# Altium schematic symbol library Analog and Interface.SchLib: 29 symbols (part 1 of 2)
Pins are listed as number, name and electrical type; pins without a type are passive.

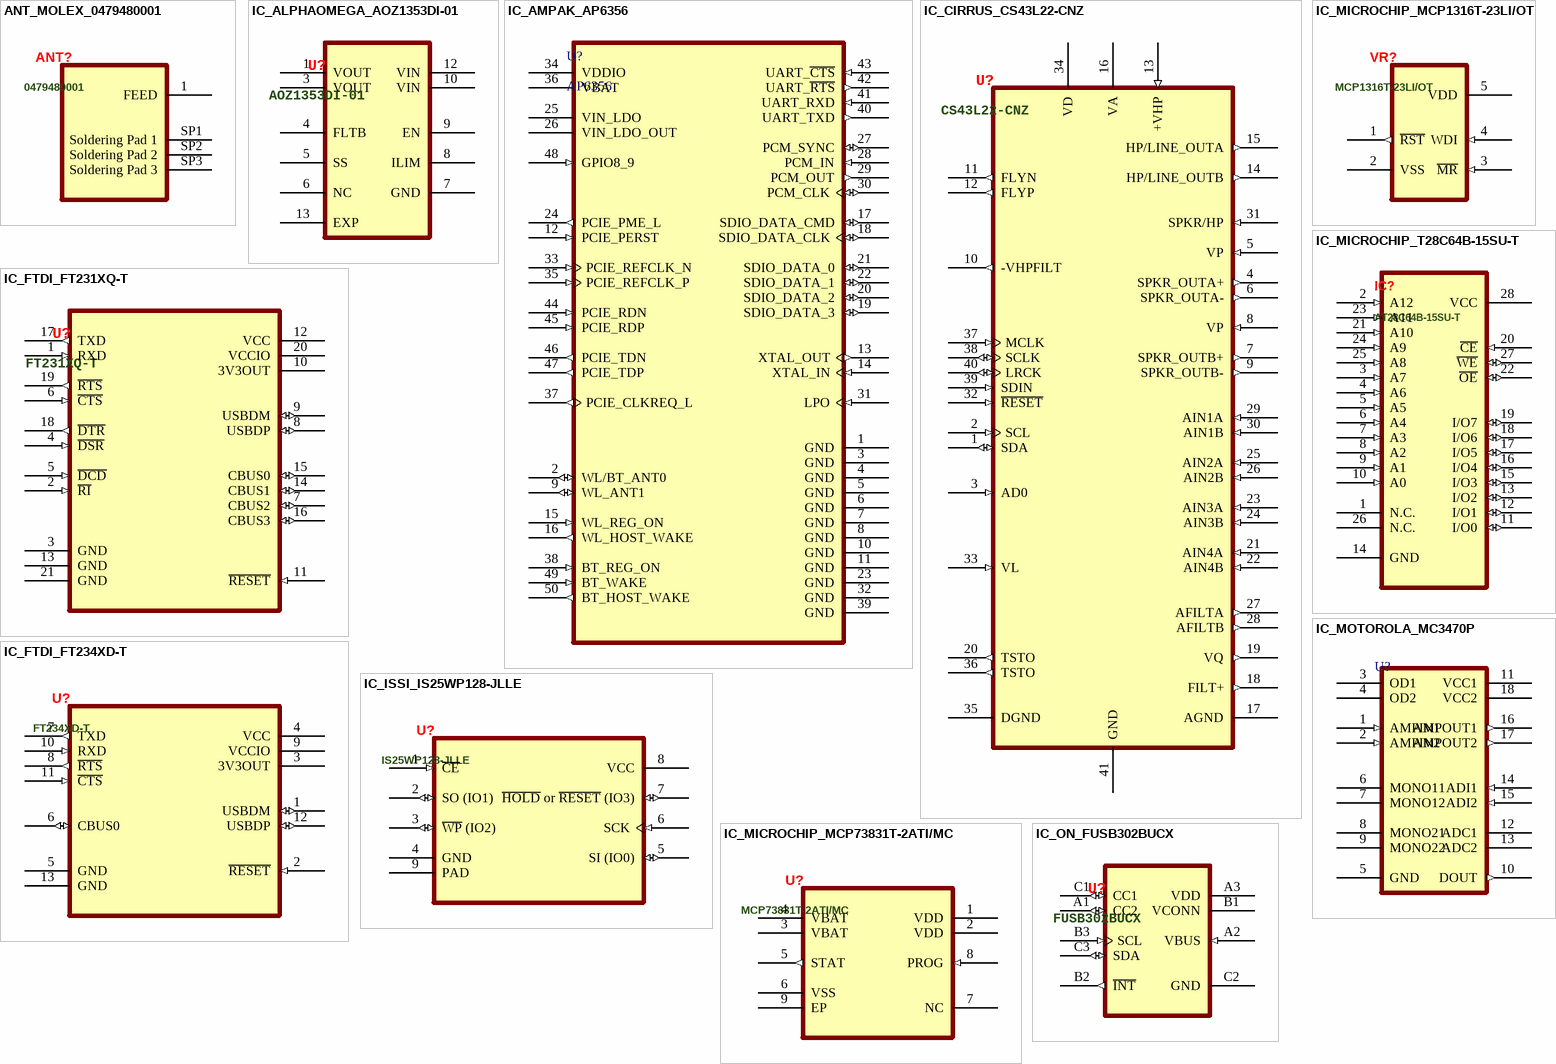
[diagram p0: symbols ANT_MOLEX_0479480001 to IC_ON_FUSB302BUCX]

## ANT_MOLEX_0479480001
designator ANT?, comment 0479480001
2.4GHz Bluetooth, WLAN, Zigbee™ Chip RF Antenna 2.4GHz ~ 2.483.5GHz 3dBi Solder Surface Mount; Manufacturer: Molex; RF Family / Standard: 802.15.4, Bluetooth, WiFi; Frequency Group: UHF (2GHz ~ 3GHz); Return Loss: -9dB; Gain: 3.0dBi; Power - Max: 2W; Impedance: 50 Ohms; ComponentLinkDescription: Product Specification; Manufacturer Part Number: 0479480001; Category: RF Antennas; Frequency (Center/Band): 2.4GHz; Frequency Range: 2.4GHz ~ 2.483.5GHz; Antenna Type: Chip; RoHS Compliant: Yes; Supplier 1: Digi-Key; Supplier Part Number 1: WM4893CT-ND; Supplier 2: Mouser; Supplier Part Number 2: 538-47948-0001; ComponentLinkURL: https://www.molex.com/pdm_docs/ps/PS-47948-001-001.pdf; ComponentLink1Description: Application Specification; ComponentLink1URL: https://www.molex.com/pdm_docs/as/AS-47948-001-001.pdf; ComponentLink2Description: Product Design Drawing; ComponentLink2URL: https://www.molex.com/pdm_docs/sd/479480001_sd.pdf; Case/Package: SMD/SMT
footprint ANT_MOLEX_0479480001 (Antenna Molex 0479480001)
pins: 1 FEED "Chip Enable", SP1 Soldering Pad 1, SP2 Soldering Pad 2, SP3 Soldering Pad 3

## IC_ALPHAOMEGA_AOZ1353DI-01
designator U?, comment AOZ1353DI-01
Power Switch/Driver 1:1 N-Channel 3.5A 12-DFN (3x3); Manufacturer: Alpha & Omega Semiconductor; Switch Type: USB Switch; ComponentLinkDescription: Datasheet; Interface: On/Off; Manufacturer Part Number: AOZ1353DI-01; Output Type: N-Channel; Case/Package: 12-DFN (3x3); Category: Power Distribution Switches, Load Drivers; ComponentLinkURL: http://www.aosmd.com/res/data_sheets/AOZ1353DI-01.pdf; Max Operating Temperature: 85°C; Min Operating Temperature: -40°C; RoHS Compliant: Yes; Supplier 1: Digi-Key; Supplier Part Number 1: 785-1913-1-ND
footprint IC_ALPHAOMEGA_AOZ1353DI-01 (Power Switch/Driver 1:1 N-Channel 3.5A 12-DFN (3x3))
pins: 1 VOUT (power) "Power Output", 3 VOUT (power) "Power Output", 4 FLTB (oc) "Fault Indicator", 5 SS "Soft-start pin.", 6 NC "Not connected", 7 GND (power) "Ground", 8 ILIM "Current Limit Set Pin", 9 EN "Enable Input", 10 VIN (power) "Supply Input", 12 VIN (power) "Supply Input", 13 EXP (power) "Exposed Pad"

## IC_AMPAK_AP6356
designator U?, comment AP6356
2.4GHz / 5GHz 802.11a/b/g/n/ac dual-band radio, Bluetooth; Manufacturer: AMPAK; ComponentLinkDescription: Datasheet; Max Supply Voltage: 5.5V; Min Supply Voltage: -0.5V; Operating Supply Voltage: 3.6V; Manufacturer Part Number: AP6356; Category: RF Transceiver ICs; ComponentLinkURL: https://rockchip.fr/ampak/AP6356_datasheet_V1.0_07252014.pdf; Max Operating Temperature: 65°C; Min Operating Temperature: -10°C; Case/Package: 50-QFN (15x13); ComponentLink1Description: Datasheet (Local); ComponentLink1URL: "C:\Users\Public\Documents\Altium\Projects\My-PCB-Library\Datasheets\AP6356_datasheet_V1.0_07252014.pdf"
footprint QFN90P1500X1300X160-50N (QFN, 50-Leads, Body 15.00x13.00mm, Pitch 0.90mm, IPC Medium Density)
footprint QFN90P1500X1300X160-50L (QFN, 50-Leads, Body 15.00x13.00mm, Pitch 0.90mm, IPC High Density)
footprint QFN90P1500X1300X160-50M (QFN, 50-Leads, Body 15.00x13.00mm, Pitch 0.90mm, IPC Low Density)
pins: 1 GND (power) "Ground", 2 WL/BT_ANT0 (io) "RF I/O Port0", 3 GND (power) "Ground", 4 GND (power) "Ground", 5 GND (power) "Ground", 6 GND (power) "Ground", 7 GND (power) "Ground", 8 GND (power) "Ground", 9 WL_ANT1 (io) "RF I/O Port1", 10 GND (power) "Ground", 11 GND (power) "Ground", 12 PCIE_PERST (in) "PCIE System Reset", 13 XTAL_OUT (out) "External Crystal Out", 14 XTAL_IN (in) "External Crystal  In / Single Clock Source In", 15 WL_REG_ON (in) "Low Asserting Reset for WiFi Core", 16 WL_HOST_WAKE (out) "WLAN to wake-up HOST", 17 SDIO_DATA_CMD (io) "SDIO Command Line", 18 SDIO_DATA_CLK (io) "SDIO Clock Line", 19 SDIO_DATA_3 (io) "SDIO Data Line 3", 20 SDIO_DATA_2 (io) "SDIO Data Line 2", 21 SDIO_DATA_0 (io) "SDIO Data Line 0", 22 SDIO_DATA_1 (io) "SDIO Data Line 1", 23 GND (power) "Ground", 24 PCIE_PME_L (out) "PCIE Power Mgt Event Output", 25 VIN_LDO (power) "Internal Buck Voltage Gen", 26 VIN_LDO_OUT (power) "Internal Buck Voltage Gen", 27 PCM_SYNC (io) "PCM Sync Signal", 28 PCM_IN (in) "PCM Data Input", 29 PCM_OUT (out) "PCM Data Output", 30 PCM_CLK (io) "PCM Clock", 31 LPO (in) "External Low Power Clock Input (32.768KHz)", 32 GND (power) "Ground", 33 PCIE_REFCLK_N (in) "PCIE Differential Clock inputs 100MHz diff", 34 VDDIO (power) "I/O Voltage Supply input", 35 PCIE_REFCLK_P (in) "PCIE Differential Clock inputs 100MHz diff", 36 VBAT (power) "Main Power Voltage Source Input", 37 PCIE_CLKREQ_L (out) "PCIE Clock Request Signal", 38 BT_REG_ON (in) "Low Asserting Reset for Bluetooth Core", 39 GND (power) "Ground", 40 UART_TXD (out) "Bluetooth UART Interface", 41 UART_RXD (in) "Bluetooth UART Interface", 42 UART_~{RTS} (out) "Bluetooth UART Interface", 43 UART_~{CTS} (in) "Bluetooth UART Interface", 44 PCIE_RDN (in) "PCIE Receiver Differential Pair", 45 PCIE_RDP (in) "PCIE Receiver Differential Pair", 46 PCIE_TDN (out) "PCIE Transmitter Differential Pair", 47 PCIE_TDP (out) "PCIE Transmitter Differential Pair", 48 GPIO8_9 (in) "Mode Selection: 1=PCIE Mode, 0=SDIO Mode", 49 BT_WAKE (in) "HOST Wake-Up Bluetooth Device", 50 BT_HOST_WAKE (out) "Bluetooth Device to Wake-Up Host"

## IC_CIRRUS_CS43L22-CNZ
designator U?, comment CS43L22-CNZ
DAC, Audio 24 b 96k I²S 40-QFN (6x6); Manufacturer: Cirrus Logic; Max Supply Voltage: 2.63V; Min Supply Voltage: 1.65V; Number of DAC Channels: 1; Interface: I2C,Serial; Sampling Rate: 96000S/s; Resolution: 24b; Polarity: Bipolar; Supply Type: Analog,Digital; Output Type: Voltage; Operating Supply Voltage: 2.5V; Number of Bits: 24; ComponentLinkDescription: Datasheet; Manufacturer Part Number: CS43L22-CNZ; Category: Digital to Analog Converters (DACs); Case/Package: 40-QFN (6x6); Min Operating Temperature: -40°C; Max Operating Temperature: 85°C; Output Polarity: Bipolar; Number of Channels: 1; RoHS Compliant: Yes; Supplier 1: Mouser; Supplier Part Number 1: 777-CS43L22-CNZ; ComponentLinkURL: https://d3uzseaevmutz1.cloudfront.net/pubs/proDatasheet/CS43L22_F2.pdf
footprint QFN50P600X600X100_HS-41N (QFN, 40-Leads, Body 6.00x6.00mm, Pitch 0.50mm, Thermal Pad 4.10x4.10mm, IPC Medium Density)
footprint QFN50P600X600X100_HS-41L (QFN, 40-Leads, Body 6.00x6.00mm, Pitch 0.50mm, Thermal Pad 4.10x4.10mm, IPC High Density)
footprint QFN50P600X600X100_HS-41M (QFN, 40-Leads, Body 6.00x6.00mm, Pitch 0.50mm, Thermal Pad 4.10x4.10mm, IPC Low Density)
pins: 1 SDA (io) "Serial  Control Data", 2 SCL (in) "Serial Control Port Clock", 3 AD0 (in) "Address Bit 0 (I²C)", 4 SPKR_OUTA+ (out) "PWM Speaker Output", 5 VP (in) "Power for PWM Drivers", 6 SPKR_OUTA- (out) "PWM Speaker Output", 7 SPKR_OUTB+ (out) "PWM Speaker Output", 8 VP (in) "Power for PWM Drivers", 9 SPKR_OUTB- (out) "PWM Speaker Output", 10 -VHPFILT (out) "Inverting Chage Pump Filter Connection", 11 FLYN (out) "Charge Pump Cap Negative Mode", 12 FLYP (out) "Charge Pump Cap Positive Node", 13 +VHP (in) "Positive Analog Power for Headphones", 14 HP/LINE_OUTB (out) "Headphone/Line Audio Output", 15 HP/LINE_OUTA (out) "Headphone/Line Audio Output", 16 VA (power) "Analog Power", 17 AGND (power) "Analog Ground", 18 FILT+ (out) "Positive Voltage Reference", 19 VQ (out) "Quiescent Voltage", 20 TSTO (out) "Test Out", 21 AIN4A (in) "Line-Level Analog Inputs", 22 AIN4B (in) "Line-Level Analog Inputs", 23 AIN3A (in) "Line-Level Analog Inputs", 24 AIN3B (in) "Line-Level Analog Inputs", 25 AIN2A (in) "Line-Level Analog Inputs", 26 AIN2B (in) "Line-Level Analog Inputs", 27 AFILTA (out) "Anti-Alias Filter Connection", 28 AFILTB (out) "Anti-Alias Filter Connection", 29 AIN1A (in) "Line-Level Analog Inputs", 30 AIN1B (in) "Line-Level Analog Inputs", 31 SPKR/HP (in) "Speaker/Headphone Switch", 32 ~{RESET} (in) "Reset", 33 VL (in) "Digital Interface Power", 34 VD (power) "Digital Power", 35 DGND (power) "Digital Ground", 36 TSTO (out) "Test Out", 37 MCLK (in) "Master Clock", 38 SCLK (io) "Serial Clock", 39 SDIN (in) "Serial Audio Data Input", 40 LRCK (io) "Left Right Clock", 41 GND (power) "Ground reference for PWM power FETs and charge pump"

## IC_FTDI_FT231XQ-T
designator U?, comment FT231XQ-T
USB Bridge, USB to UART USB 2.0 UART Interface 20-QFN (4x4); Manufacturer: FTDI; Operating Supply Voltage: 5V; Max Supply Voltage: 5.5V; Min Supply Voltage: 2.97V; Data Rate: 3Mbps; Interface: USB,UART; Operating Supply Current: 8mA; ComponentLinkDescription: Datasheet; Manufacturer Part Number: FT231XQ-T; Category: Interface Controllers; Case/Package: 20-QFN (4x4); Min Operating Temperature: -40°C; Max Operating Temperature: 85°C; ComponentLinkURL: https://ftdichip.com/wp-content/uploads/2021/10/DS_FT231X.pdf; RoHS Compliant: Yes; Supplier 1: Digi-Key; Supplier Part Number 1: 768-1155-ND; Supplier 2: Mouser; Supplier Part Number 2: 895-FT231XQ-T
footprint QFN50P400X400X80_HS-21N (QFN, 20-Leads, Body 4.00x4.00mm, Pitch 0.50mm, Thermal Pad 2.20x2.20mm, IPC Medium Density)
footprint QFN50P400X400X80_HS-21L (QFN, 20-Leads, Body 4.00x4.00mm, Pitch 0.50mm, Thermal Pad 2.20x2.20mm, IPC High Density)
footprint QFN50P400X400X80_HS-21M (QFN, 20-Leads, Body 4.00x4.00mm, Pitch 0.50mm, Thermal Pad 2.20x2.20mm, IPC Low Density)
pins: 1 RXD (in) "Receiving Asynchronous Data Input", 2 ~{RI} (in) "Ring Indicator Input for remote wake-up", 3 GND (power) "Ground", 4 ~{DSR} (in) "Data Set Ready Control Input / Handshake Signal", 5 ~{DCD} (in) "Data Carrier Detect Control Input", 6 ~{CTS} (in) "Clear to Send Control Input / Handshake Signal", 7 CBUS2 (io) "Configurable CBUS I/O Pin. Function of this pin is configured in the device MTP memory. The default configuration is TXLED#.", 8 USBDP (io) "USB Data Signal Plus", 9 USBDM (io) "USB Data Signal Minus", 10 3V3OUT (power) "3.3V output at 50mA. May be used to power VCCIO. When VCC is 3.3V, pin 10 is input and should be connected to pin12", 11 ~{RESET} (in) "Reset Input", 12 VCC (power) "5V (or 3.3V) supply to IC", 13 GND (power) "Ground", 14 CBUS1 (io) "Configurable CBUS I/O Pin. Function of this pin is configured in the device MTP memory. The default configuration is RXLED#.", 15 CBUS0 (io) "Configurable CBUS I/O Pin. Function of this pin is configured in the device MTP memory. The default configuration is TXDEN.", 16 CBUS3 (io) "Configurable CBUS I/O Pin. Function of this pin is configured in the device MTP memory. The default configuration is SLEEP#.", 17 TXD (out) "Transmit Asynchronous Data Output", 18 ~{DTR} (out) "Data Terminal Ready Control Output / Handshake Signal", 19 ~{RTS} (out) "Request to Send Control Output / Handshake Signal", 20 VCCIO (power) "1.8V - 3.3V supply for the IO cells", 21 GND (power) "Ground"

## IC_FTDI_FT234XD-T
designator U?, comment FT234XD-T
USB Bridge, USB to UART USB 2.0 UART Interface 12-DFN (3x3); Manufacturer: FTDI; Operating Supply Voltage: 5V; Max Supply Voltage: 5.5V; Min Supply Voltage: 2.97V; Interface: USB,UART; Data Rate: 3Mbps; Operating Supply Current: 8mA; ComponentLinkDescription: Datasheet; Manufacturer Part Number: FT234XD-T; Category: Interface Controllers; Case/Package: 12-DFN (3x3); Min Operating Temperature: -40°C; Max Operating Temperature: 85°C; Supplier 1: Digi-Key; Supplier Part Number 1: 768-1345-ND; Supplier 2: Mouser; Supplier Part Number 2: 895-FT234XD-T; ComponentLinkURL: http://www.ftdichip.com/Support/Documents/DataSheets/ICs/DS_FT234XD.pdf; RoHS Compliant: Yes
footprint SON45P300X80_HS-13N (SON, 12-Leads, Body 3.00x3.00mm, Pitch 0.45mm, Thermal Pad 2.48x1.58mm, IPC Medium Density)
footprint SON45P300X80_HS-13L (SON, 12-Leads, Body 3.00x3.00mm, Pitch 0.45mm, Thermal Pad 2.48x1.58mm, IPC High Density)
footprint SON45P300X80_HS-13M (SON, 12-Leads, Body 3.00x3.00mm, Pitch 0.45mm, Thermal Pad 2.48x1.58mm, IPC Low Density)
pins: 1 USBDM (io) "USB Data Signal Minus", 2 ~{RESET} (in) "Reset Input", 3 3V3OUT (power) "3.3V output at 50mA. May be used to power VCCIO. When VCC is 3.3V, pin 3 is input and should be connected to pin 4", 4 VCC (power) "5V (or 3.3V) supply to IC", 5 GND (power) "Ground", 6 CBUS0 (io) "Configurable CBUS I/O Pin. Function of this pin is configured in the device MTP memory. The default configuration is TXDEN.", 7 TXD (out) "Transmit Asynchronous Data Output", 8 ~{RTS} (out) "Request to Send Control Output / Handshake Signal", 9 VCCIO (power) "1.8V - 3.3V supply for the IO cells", 10 RXD (in) "Receiving Asynchronous Data Input", 11 ~{CTS} (in) "Clear to Send Control Input / Handshake Signal", 12 USBDP (io) "USB Data Signal Plus", 13 GND (power) "Ground"

## IC_ISSI_IS25WP128-JLLE
designator U?, comment IS25WP128-JLLE
NOR Flash Serial (SPI, Dual SPI, Quad SPI) 1.8V 128M-bit 16M x 8 8ns 8-Pin WSON EP; Manufacturer: ISSI; Density: 128Mb; Address Bus Width: 24b; Interface: SPI,Serial; Page Size: 256B; ComponentLinkDescription: Datasheet; Manufacturer Part Number: IS25WP128-JLLE; Category: Memory; Min Operating Temperature: -40°C; Max Operating Temperature: 105°C; Memory Type: NOR; Operating Supply Voltage: 1.8V; RoHS Compliant: Yes; Case/Package: 8-WSON (8x6); ComponentLinkURL: https://www.issi.com/WW/pdf/25WP128.pdf; Supplier 1: Digi-Key; Supplier Part Number 1: 706-1625-ND; Supplier 2: Mouser; Supplier Part Number 2: 870-25WP128-JLLE
footprint SON127P800X80_HS-9N (SON, 8-Leads, Body 6.00x8.00mm, Pitch 1.27mm, Thermal Pad 4.60x4.70mm, IPC Medium Density)
footprint SON127P800X80_HS-9M (SON, 8-Leads, Body 6.00x8.00mm, Pitch 1.27mm, Thermal Pad 4.60x4.70mm, IPC Low Density)
footprint SON127P800X80_HS-9L (SON, 8-Leads, Body 6.00x8.00mm, Pitch 1.27mm, Thermal Pad 4.60x4.70mm, IPC High Density)
pins: 1 ~{CE} (in) "Chip Enable", 2 SO (IO1) (io) "Serial Data Output / IO1", 3 ~{WP} (IO2) (io) "Write Protect / Serial Data IO (IO2)", 4 GND (power) "Ground", 5 SI (IO0) (io) "Serial Data Input / IO0", 6 SCK (in) "Serial Data Clock", 7 ~{HOLD} or ~{RESET} (IO3) (io) "HOLD# or RESET# / Serial Data IO (IO3)", 8 VCC (power) "Power", 9 PAD (power) "Ground"

## IC_MICROCHIP_MCP1316T-23LI/OT
designator VR?, comment MCP1316T-23LI/OT
Supervisor Push-Pull, Totem Pole 1 Channel SOT-23-5; Manufacturer: Microchip; Reset: Active Low; Number of Voltages Monitored: 1; Reset Timeout: 140ms; Threshold Voltage: 2.3V; ComponentLinkDescription: Datasheet; Manufacturer Part Number: MCP1316T-23LI/OT; Category: Voltage Supervisors; Case/Package: SOT-23-5; Min Operating Temperature: -40°C; Max Operating Temperature: 85°C; Type: Simple Reset/Power-On Reset; RoHS Compliant: Yes; Supplier 1: Digi-Key; Supplier Part Number 1: MCP1316T-23LI/OTCT-ND; Supplier 2: Mouser; Supplier Part Number 2: 579-MCP1316T-23LI/OT; ComponentLinkURL: https://ww1.microchip.com/downloads/en/DeviceDoc/MCP131X-2X-Voltage-Supervisor-DS20001985E.pdf
footprint SOT95P280X145-5N (SOT23, 5-Leads, Body 2.90x2.80mm, Pitch 0.95mm, IPC Medium Density)
footprint SOT95P280X145-5L (SOT23, 5-Leads, Body 2.90x2.80mm, Pitch 0.95mm, IPC High Density)
footprint SOT95P280X145-5M (SOT23, 5-Leads, Body 2.90x2.80mm, Pitch 0.95mm, IPC Low Density)
pins: 1 ~{RST} (out) "Reset", 2 VSS (power) "Ground", 3 ~{MR} (in) "Manual Reset input for a reset switch", 4 WDI (in) "Watchdog Timer input", 5 VDD (power) "Positive supply for device"

## IC_MICROCHIP_MCP73831T-2ATI/MC
designator U?, comment MCP73831T-2ATI/MC
Charger IC Lithium Ion/Polymer 8-DFN (2x3); Manufacturer: Microchip; Min Supply Voltage: 3.75V; Max Supply Voltage: 6V; Output Current: 500mA; Output Voltage: 4.2V; ComponentLinkDescription: Datasheet; Manufacturer Part Number: MCP73831T-2ATI/MC; Category: Battery Chargers; Case/Package: 8-DFN (2x3); Min Operating Temperature: -40°C; Max Operating Temperature: 85°C; RoHS Compliant: Yes; Supplier 1: Digi-Key; Supplier Part Number 1: MCP73831T-2ATI/MCCT-ND; Supplier 2: Mouser; Supplier Part Number 2: 579-MCP73831T-2ATIMC; ComponentLinkURL: https://ww1.microchip.com/downloads/en/DeviceDoc/MCP73831-Family-Data-Sheet-DS20001984H.pdf
footprint SON50P300X100_HS-9N (SON, 8-Leads, Body 2.00x3.00mm, Pitch 0.50mm, Thermal Pad 1.63x1.40mm, IPC Medium Density)
footprint SON50P300X100_HS-9L (SON, 8-Leads, Body 2.00x3.00mm, Pitch 0.50mm, Thermal Pad 1.63x1.40mm, IPC High Density)
footprint SON50P300X100_HS-9M (SON, 8-Leads, Body 2.00x3.00mm, Pitch 0.50mm, Thermal Pad 1.63x1.40mm, IPC Low Density)
pins: 1 VDD (power) "Battery Management Input Supply", 2 VDD (power) "Battery Management Input Supply", 3 VBAT (power) "Battery Charge Control Output", 4 VBAT (power) "Battery Charge Control Output", 5 STAT (out) "Charge Status Output", 6 VSS (power) "Battery Management 0V Reference", 7 NC "No Connection", 8 PROG (in) "Current Regulation Set and Charge Control Enable", 9 EP (power) "Exposed Thermal Pad (EP); must be connected to VSS"

## IC_MICROCHIP_T28C64B-15SU-T
designator IC?, comment AT28C64B-15SU-T
EEPROM Memory IC 64Kbit Parallel 150 ns 28-SOIC; Manufacturer: Microchip; Address Bus Width: 8b; ComponentLinkDescription: Datasheet; Density: 64Kb; Max Supply Voltage: 5.5V; Min Supply Voltage: 4.5V; Operating Supply Current: 40mA; Operating Supply Voltage: 5V; Page Size: 64B; Manufacturer Part Number: AT28C64B-15SU-T; Category: Memory; Case/Package: 28-SOIC; ComponentLinkURL: https://www.digikey.com/htmldatasheets/production/54074/0/0/1/at28c64b.pdf; Max Operating Temperature: 85°C; Memory Type: EEPROM; Min Operating Temperature: -40°C; RoHS Compliant: Yes; Supplier 1: Digi-Key; Supplier 2: Mouser; Supplier Part Number 1: AT28C64B-15SU-TCT-ND; Supplier Part Number 2: 556-AT28C64B-15SU-T
footprint SOIC127P1030X265-28N (SOIC, 28-Leads, Body 17.90x7.50mm, Pitch 1.27mm, IPC Medium Density)
footprint SOIC127P1030X265-28L (SOIC, 28-Leads, Body 17.90x7.50mm, Pitch 1.27mm, IPC High Density)
footprint SOIC127P1030X265-28M (SOIC, 28-Leads, Body 17.90x7.50mm, Pitch 1.27mm, IPC Low Density)
pins: 1 N.C. "Not Connected", 2 A12 (in) "Addresses", 3 A7 (in) "Addresses", 4 A6 (in) "Addresses", 5 A5 (in) "Addresses", 6 A4 (in) "Addresses", 7 A3 (in) "Addresses", 8 A2 (in) "Addresses", 9 A1 (in) "Addresses", 10 A0 (in) "Addresses", 11 I/O0 (io) "Data Inputs/Outputs", 12 I/O1 (io) "Data Inputs/Outputs", 13 I/O2 (io) "Data Inputs/Outputs", 14 GND (power) "Ground", 15 I/O3 (io) "Data Inputs/Outputs", 16 I/O4 (io) "Data Inputs/Outputs", 17 I/O5 (io) "Data Inputs/Outputs", 18 I/O6 (io) "Data Inputs/Outputs", 19 I/O7 (io) "Data Inputs/Outputs", 20 ~{CE} (in) "Chip Enable", 21 A10 (in) "Addresses", 22 ~{OE} (io) "Output Enable", 23 A11 (in) "Addresses", 24 A9 (in) "Addresses", 25 A8 (in) "Addresses", 26 N.C. "Not Connected", 27 ~{WE} (io) "Write Enable", 28 VCC (power) "Power Supply"

## IC_MOTOROLA_MC3470P
designator U?, comment MC3470P  (value not drawn)  (no BOM)
Floppy Disk Read-Amplifier Systems; Manufacturer: Motorola; ComponentLinkDescription: Datasheet; Manufacturer Part Number: MC3470P; RoHS Compliant: No; Case/Package: 18-PDIP; Category: Amplifiers; ComponentLinkURL: https://pdf1.alldatasheet.com/datasheet-pdf/view/115950/TI/MC3470.html
footprint DIP762W52P254L2270H500Q18 (Dual-In-Line Package; Lead Span 7.62mm, Lead Width 0.52mm, Pin Pitch 2.54mm, Body Length 22.70mm, Body Height 5.00mm, Pin Qty 18)
footprint DIP762W52P254L2270H500Q18-SKT (Dual-In-Line Package; Lead Span 7.62mm, Lead Width 0.52mm, Pin Pitch 2.54mm, Body Length 22.70mm, Body Height 5.00mm, Pin Qty 18 Socketed)
pins: 1 AMPIN1 (in) "Amplifier Input", 2 AMPIN2 (in) "Amplifier Input", 3 OD1 "Offset Decoupling", 4 OD2 "Offset Decoupling", 5 GND (power) "Ground", 6 MONO11 "One Shot Compnt Mono 1", 7 MONO12 "One Shot Compnt Mono 1", 8 MONO21 "One Shot Compnt Mono 2", 9 MONO22 "One Shot Compnt Mono 2", 10 DOUT (out) "Data Output", 11 VCC1 (power) "+5V", 12 ADC1 "Active Diff Components", 13 ADC2 "Active Diff Components", 14 ADI1 (in) "Active Diff Input", 15 ADI2 (in) "Active Diff Input", 16 AMPOUT1 (out) "Amplifier Output", 17 AMPOUT2 (out) "Amplifier Output", 18 VCC2 (power) "+12V"

## IC_ON_FUSB302BUCX
designator U?, comment FUSB302BUCX
USB Controller USB 3.1 USB Interface 9-WLCSP (1.21x1.26); Manufacturer: ON Semiconductor / Fairchild; Operating Supply Current: 25uA; ComponentLinkDescription: Datasheet; Max Supply Voltage: 5.5V; Min Supply Voltage: 2.8V; Manufacturer Part Number: FUSB302BUCX; Category: Interface Controllers; Min Operating Temperature: -40°C; Max Operating Temperature: 85°C; Interface: USB; RoHS Compliant: Yes; ComponentLinkURL: https://www.onsemi.com/pdf/datasheet/fusb302b-d.pdf; Case/Package: 9-WLCSP (1.21x1.26); Supplier 1: Digi-Key; Supplier Part Number 1: FUSB302BUCXCT-ND; Supplier 2: Mouser; Supplier Part Number 2: 512-FUSB302BUCX
footprint BGA9C40P3X3_126X122X53 (BGA, 9-Leads, Body 1.26x1.22mmx0.53mm, Pitch 0.40mm)
pins: A1 CC2 (io), A2 VBUS (in), A3 VDD (power), B1 VCONN (power), B2 ~{INT} (out), B3 SCL (in), C1 CC1 (io), C2 GND (power), C3 SDA (io)

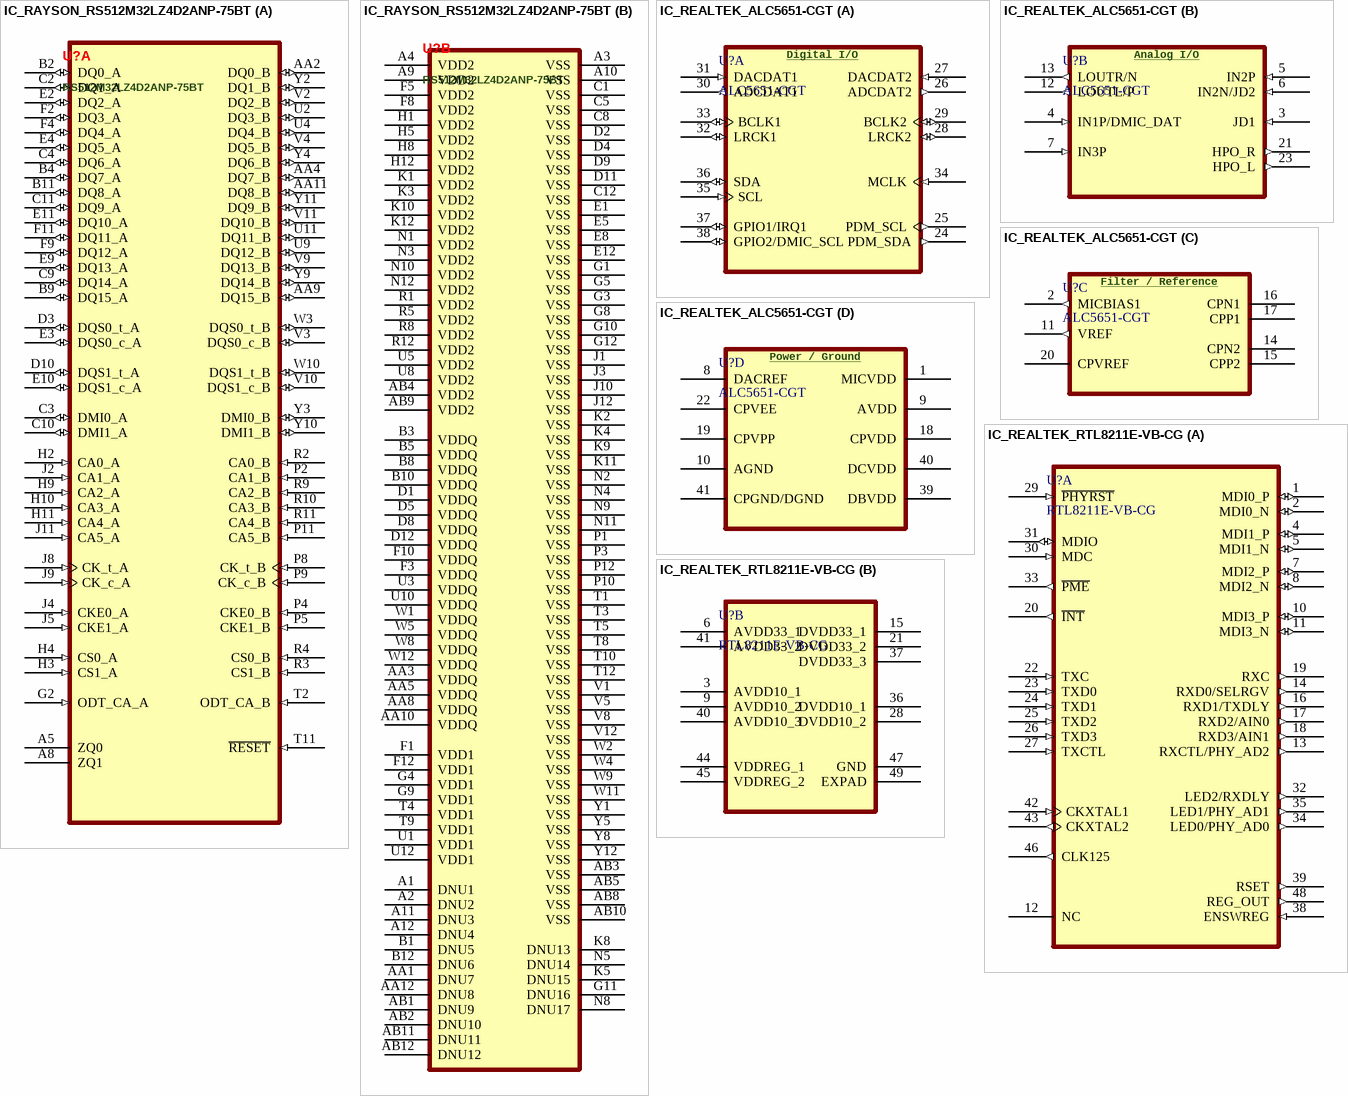
[diagram p1: symbols IC_RAYSON_RS512M32LZ4D2ANP-75BT to IC_REALTEK_RTL8211E-VB-CG]

## IC_RAYSON_RS512M32LZ4D2ANP-75BT
designator U?, comment RS512M32LZ4D2ANP-75BT
SDRAM - Mobile LPDDR4 Memory IC 16Gbit (x32, 2Channel) 2.667 GHz 1.8V / 1.1 / 1.1V 200-WFBGA (10x15); Manufacturer: Rayson; ComponentLinkDescription: Datasheet; Max Supply Voltage: -0.4V; Min Supply Voltage: 2.1V; Manufacturer Part Number: RS512M32LZ4D2ANP-75BT; Case/Package: 200-WFBGA (10x15); ComponentLink1Description: Datasheet (Local); ComponentLink1URL: C:\Users\Public\Documents\Altium\Projects\My-PCB-Library\Datasheets\RS512M32LZ4D2ANP-75BT -- LPDDR4.pdf; Category: Memory; ComponentLinkURL: https://szrayson.com/uploadfiles/2020/04/20200402111832354.pdf; Max Operating Temperature: 105°C; Min Operating Temperature: -40°C; Operating Supply Voltage: 1.8V
footprint BGA200C65P10X20_1000X1500X100 (BGA, 200-Leads, Body 10.00x15.00mmx1.00mm, Pitch 0.65mm)
part A pins: A5 ZQ0 "Calibration Reference", A8 ZQ1 "Calibration Reference", AA2 DQ0_B (io) "Data Input/Output", AA4 DQ7_B (io) "Data Input/Output", AA9 DQ15_B (io) "Data Input/Output", AA11 DQ8_B (io) "Data Input/Output", B2 DQ0_A (io) "Data Input/Output", B4 DQ7_A (io) "Data Input/Output", B9 DQ15_A (io) "Data Input/Output", B11 DQ8_A (io) "Data Input/Output", C2 DQ1_A (io) "Data Input/Output", C3 DMI0_A (io) "Data Mask Inversion", C4 DQ6_A (io) "Data Input/Output", C9 DQ14_A (io) "Data Input/Output", C10 DMI1_A (io) "Data Mask Inversion", C11 DQ9_A (io) "Data Input/Output", D3 DQS0_t_A (io) "Read Strobe", D10 DQS1_t_A (io) "Read Strobe", E2 DQ2_A (io) "Data Input/Output", E3 DQS0_c_A (io) "Read Strobe", E4 DQ5_A (io) "Data Input/Output", E9 DQ13_A (io) "Data Input/Output", E10 DQS1_c_A (io) "Read Strobe", E11 DQ10_A (io) "Data Input/Output", F2 DQ3_A (io) "Data Input/Output", F4 DQ4_A (io) "Data Input/Output", F9 DQ12_A (io) "Data Input/Output", F11 DQ11_A (io) "Data Input/Output", G2 ODT_CA_A (in) "CA ODT  Control", H2 CA0_A (in) "Command/Address Inputs", H3 CS1_A (in) "Chip Select", H4 CS0_A (in) "Chip Select", H9 CA2_A (in) "Command/Address Inputs", H10 CA3_A (in) "Command/Address Inputs", H11 CA4_A (in) "Command/Address Inputs", J2 CA1_A (in) "Command/Address Inputs", J4 CKE0_A (in) "Clock Enable", J5 CKE1_A (in) "Clock Enable", J8 CK_t_A (in) "Differential Clock Inputs", J9 CK_c_A (in) "Differential Clock Inputs", J11 CA5_A (in) "Command/Address Inputs", P2 CA1_B (in) "Command/Address Inputs", P4 CKE0_B (in) "Clock Enable", P5 CKE1_B (in) "Clock Enable", P8 CK_t_B (in) "Differential Clock Inputs", P9 CK_c_B (in) "Differential Clock Inputs", P11 CA5_B (in) "Command/Address Inputs", R2 CA0_B (in) "Command/Address Inputs", R3 CS1_B (in) "Chip Select", R4 CS0_B (in) "Chip Select", R9 CA2_B (in) "Command/Address Inputs", R10 CA3_B (in) "Command/Address Inputs", R11 CA4_B (in) "Command/Address Inputs", T2 ODT_CA_B (in) "CA ODT  Control", T11 ~{RESET} (in) "RESETn", U2 DQ3_B (io) "Data Input/Output", U4 DQ4_B (io) "Data Input/Output", U9 DQ12_B (io) "Data Input/Output", U11 DQ11_B (io) "Data Input/Output", V2 DQ2_B (io) "Data Input/Output", V3 DQS0_c_B (io) "Read Strobe", V4 DQ5_B (io) "Data Input/Output", V9 DQ13_B (io) "Data Input/Output", V10 DQS1_c_B (io) "Read Strobe", V11 DQ10_B (io) "Data Input/Output", W3 DQS0_t_B (io) "Read Strobe", W10 DQS1_t_B (io) "Read Strobe", Y2 DQ1_B (io) "Data Input/Output", Y3 DMI0_B (io) "Data Mask Inversion", Y4 DQ6_B (io) "Data Input/Output", Y9 DQ14_B (io) "Data Input/Output", Y10 DMI1_B (io) "Data Mask Inversion", Y11 DQ9_B (io) "Data Input/Output"
part B pins: A1 DNU1, A2 DNU2, A3 VSS (power), A4 VDD2 (power), A9 VDD2 (power), A10 VSS (power), A11 DNU3, A12 DNU4, AA1 DNU7, AA3 VDDQ (power), AA5 VDDQ (power), AA8 VDDQ (power), AA10 VDDQ (power), AA12 DNU8, AB1 DNU9, AB2 DNU10, AB3 VSS (power), AB4 VDD2 (power), AB5 VSS (power), AB8 VSS (power), AB9 VDD2 (power), AB10 VSS (power), AB11 DNU11, AB12 DNU12, B1 DNU5, B3 VDDQ (power), B5 VDDQ (power), B8 VDDQ (power), B10 VDDQ (power), B12 DNU6, C1 VSS (power), C5 VSS (power), C8 VSS (power), C12 VSS (power), D1 VDDQ (power), D2 VSS (power), D4 VSS (power), D5 VDDQ (power), D8 VDDQ (power), D9 VSS (power), D11 VSS (power), D12 VDDQ (power), E1 VSS (power), E5 VSS (power), E8 VSS (power), E12 VSS (power), F1 VDD1 (power), F3 VDDQ (power), F5 VDD2 (power), F8 VDD2 (power), F10 VDDQ (power), F12 VDD1 (power), G1 VSS (power), G3 VSS (power), G4 VDD1 (power), G5 VSS (power), G8 VSS (power), G9 VDD1 (power), G10 VSS (power), G11 DNU16, G12 VSS (power), H1 VDD2 (power), H5 VDD2 (power), H8 VDD2 (power), H12 VDD2 (power), J1 VSS (power), J3 VSS (power), J10 VSS (power), J12 VSS (power), K1 VDD2 (power), K2 VSS (power), K3 VDD2 (power), K4 VSS (power), K5 DNU15, K8 DNU13, K9 VSS (power), K10 VDD2 (power), K11 VSS (power), K12 VDD2 (power), N1 VDD2 (power), N2 VSS (power), N3 VDD2 (power), N4 VSS (power), N5 DNU14, N8 DNU17, N9 VSS (power), N10 VDD2 (power), N11 VSS (power), N12 VDD2 (power), P1 VSS (power), P3 VSS (power), P10 VSS (power), P12 VSS (power), R1 VDD2 (power), R5 VDD2 (power), R8 VDD2 (power), R12 VDD2 (power), T1 VSS (power), T3 VSS (power), T4 VDD1 (power), T5 VSS (power), T8 VSS (power), T9 VDD1 (power), T10 VSS (power), T12 VSS (power), U1 VDD1 (power), U3 VDDQ (power), U5 VDD2 (power), U8 VDD2 (power), U10 VDDQ (power), U12 VDD1 (power), V1 VSS (power), V5 VSS (power), V8 VSS (power), V12 VSS (power), W1 VDDQ (power), W2 VSS (power), W4 VSS (power), W5 VDDQ (power), W8 VDDQ (power), W9 VSS (power), W11 VSS (power), W12 VDDQ (power), Y1 VSS (power), Y5 VSS (power), Y8 VSS (power), Y12 VSS (power)

## IC_REALTEK_ALC5651-CGT
designator U?, comment ALC5651-CGT
CODEC Audio Ultra-Low Power Two-Channel with SounzRealTM Digital Sound Effect for Mobile Devices; Manufacturer Name: Realtek; ComponentLinkDescription: Datasheet; Interface: I2C; Manufacturer Part Number: ALC5651-CGT; Category: CODECs; ComponentLinkURL: https://datasheet.lcsc.com/lcsc/2012051804_Realtek-Semicon-ALC5651-CG_C963633.pdf; Case/Package: 40-QFN (5x5)
footprint QFN40P500X500X90_HS-41N (QFN, 40-Leads, Body 5.00x5.00mm, Pitch 0.40mm, Thermal Pad 3.70x3.70mm, IPC Medium Density)
footprint QFN40P500X500X90_HS-41M (QFN, 40-Leads, Body 5.00x5.00mm, Pitch 0.40mm, Thermal Pad 3.70x3.70mm, IPC Low Density)
footprint QFN40P500X500X90_HS-41L (QFN, 40-Leads, Body 5.00x5.00mm, Pitch 0.40mm, Thermal Pad 3.70x3.70mm, IPC High Density)
part A pins: 24 PDM_SDA (out) "PDM Data Output", 25 PDM_SCL (out) "PDM Clock Output", 26 ADCDAT2 (out) "Second I2S Interface Serial Data Output", 27 DACDAT2 (in) "Second I2S Interface Serial Data Input", 28 LRCK2 (io) "Second I2S Interface Synchronous Signal", 29 BCLK2 (io) "Second I2S Interface Serial Bit Clock", 30 ADCDAT1 (out) "First I2S Interface Serial Data Output", 31 DACDAT1 (in) "First I2S Interface Serial Data Input", 32 LRCK1 (io) "First I2S Interface Synchronous Signal", 33 BCLK1 (io) "First I2S Interface Serial Bit Clock", 34 MCLK (in) "I2S Interface Master Clock Input", 35 SCL (in) "I2C Interface Clock Input", 36 SDA (io) "I2C Interface Serial Data", 37 GPIO1/IRQ1 (io) "General Purpose I/O - Interrupt Output", 38 GPIO2/DMIC_SCL (io) "General Purpose I/O - Digital Mic Clock Output"
part B pins: 3 JD1 (in) "1st Jack Detection Pin", 4 IN1P/DMIC_DAT (in) "Single-end Input for Mic 1 - Digital Mic Data Input", 5 IN2P (in) "Positive Diff Input for Mic 2 - Left Channel Line Input", 6 IN2N/JD2 (in) "Negative Diff Input for Mic 2 - Right Channel Line Input - 2nd Jack Detection Pin", 7 IN3P (in) "Single-end Input for Mic 3", 12 LOUTL/P (out) "Line Output Type - Left Channel Single-end Output - Positive Channel Diff Output", 13 LOUTR/N (out) "Line Output Type - Right Channel Single-end Output - Negative Channel Diff Output", 21 HPO_R (out) "Headphone Amplifier Output Right Channel", 23 HPO_L (out) "Headphone Amplifier Output Left Channel"
part C pins: 2 MICBIAS1 (out) "Bias Voltage Output for Mic", 11 VREF (out) "Internal Voltage Reference", 14 CPN2 "2nd Charge Pump Bucket Capacitor", 15 CPP2 "2nd Charge Pump Bucket Capacitor", 16 CPN1 "First Charge Pump Bucket Capacitor", 17 CPP1 "First Charge Pump Bucket Capacitor", 20 CPVREF "Headphone Reference Ground"
part D pins: 1 MICVDD (power) "Analog Power for MICBIAS", 8 DACREF (power) "Analog Power", 9 AVDD (power) "Analog Power", 10 AGND (power) "Analog Ground", 18 CPVDD (power) "Analog Power for Headphone Charge Pump", 19 CPVPP (power) "Charge Pump Positive Voltage Output", 22 CPVEE (power) "Charge Pump Negative Voltage Output", 39 DBVDD (power) "Digital Power for Digital I/O Buffer", 40 DCVDD (power) "Digital Power for Digital Core", 41 CPGND/DGND (power) "Charge Pump GND - Digital GND"
part A text: Digital I/O
part B text: Analog I/O
part C text: Filter / Reference
part D text: Power / Ground

## IC_REALTEK_RTL8211E-VB-CG
designator U?, comment RTL8211E-VB-CG
Ethernet Transceivers 10/100/1000 Base-T PHY GMII, MII, RGMII 1.43V ~ 3.63V QFN-48_6x6x04P Ethernet ICs RoHS; Manufacturer: Realtek Semicon; ComponentLinkDescription: Datasheet; ComponentLinkURL: C:\Users\Public\Documents\Altium\Projects\My-PCB-Library\Datasheets\Realtek-Semicon-RTL8211EG-VB-CG_C69264.pdf; Min Supply Voltage: 2.97; Operating Supply Voltage: 3.3V; Manufacturer Part Number: RTL8211E-VB-CG; Case/Package: 48-QFN (9x9); Category: Interface Controllers; Max Operating Temperature: 70°C; Max Supply Voltage: 3.63V; Min Operating Temperature: 0°C
footprint QFN40P600X600X100_HS-49N (QFN, 48-Leads, Body 6.00x6.00mm, Pitch 0.40mm, Thermal Pad 4.40x4.40mm, IPC Medium Density)
footprint QFN40P600X600X100_HS-49L (QFN, 48-Leads, Body 6.00x6.00mm, Pitch 0.40mm, Thermal Pad 4.40x4.40mm, IPC High Density)
footprint QFN40P600X600X100_HS-49M (QFN, 48-Leads, Body 6.00x6.00mm, Pitch 0.40mm, Thermal Pad 4.40x4.40mm, IPC Low Density)
part A pins: 1 MDI0_P (io), 2 MDI0_N (io), 4 MDI1_P (io), 5 MDI1_N (io), 7 MDI2_P (io), 8 MDI2_N (io), 10 MDI3_P (io), 11 MDI3_N (io), 12 NC, 13 RXCTL/PHY_AD2 (out), 14 RXD0/SELRGV (out), 16 RXD1/TXDLY (out), 17 RXD2/AIN0 (out), 18 RXD3/AIN1 (out), 19 RXC (out), 20 ~{INT} (out), 22 TXC (in), 23 TXD0 (in), 24 TXD1 (in), 25 TXD2 (in), 26 TXD3 (in), 27 TXCTL (in), 29 ~{PHYRST} (in), 30 MDC (in), 31 MDIO (io), 32 LED2/RXDLY (out), 33 ~{PME} (out), 34 LED0/PHY_AD0 (out), 35 LED1/PHY_AD1 (out), 38 ENSWREG (in), 39 RSET (out), 42 CKXTAL1 (in), 43 CKXTAL2 (out), 46 CLK125 (out), 48 REG_OUT (out)
part B pins: 3 AVDD10_1 (power), 6 AVDD33_1 (power), 9 AVDD10_2 (power), 15 DVDD33_1 (power), 21 DVDD33_2 (power), 28 DVDD10_2 (power), 36 DVDD10_1 (power), 37 DVDD33_3 (power), 40 AVDD10_3 (power), 41 AVDD33_2 (power), 44 VDDREG_1 (power), 45 VDDREG_2 (power), 47 GND (power), 49 EXPAD (power)

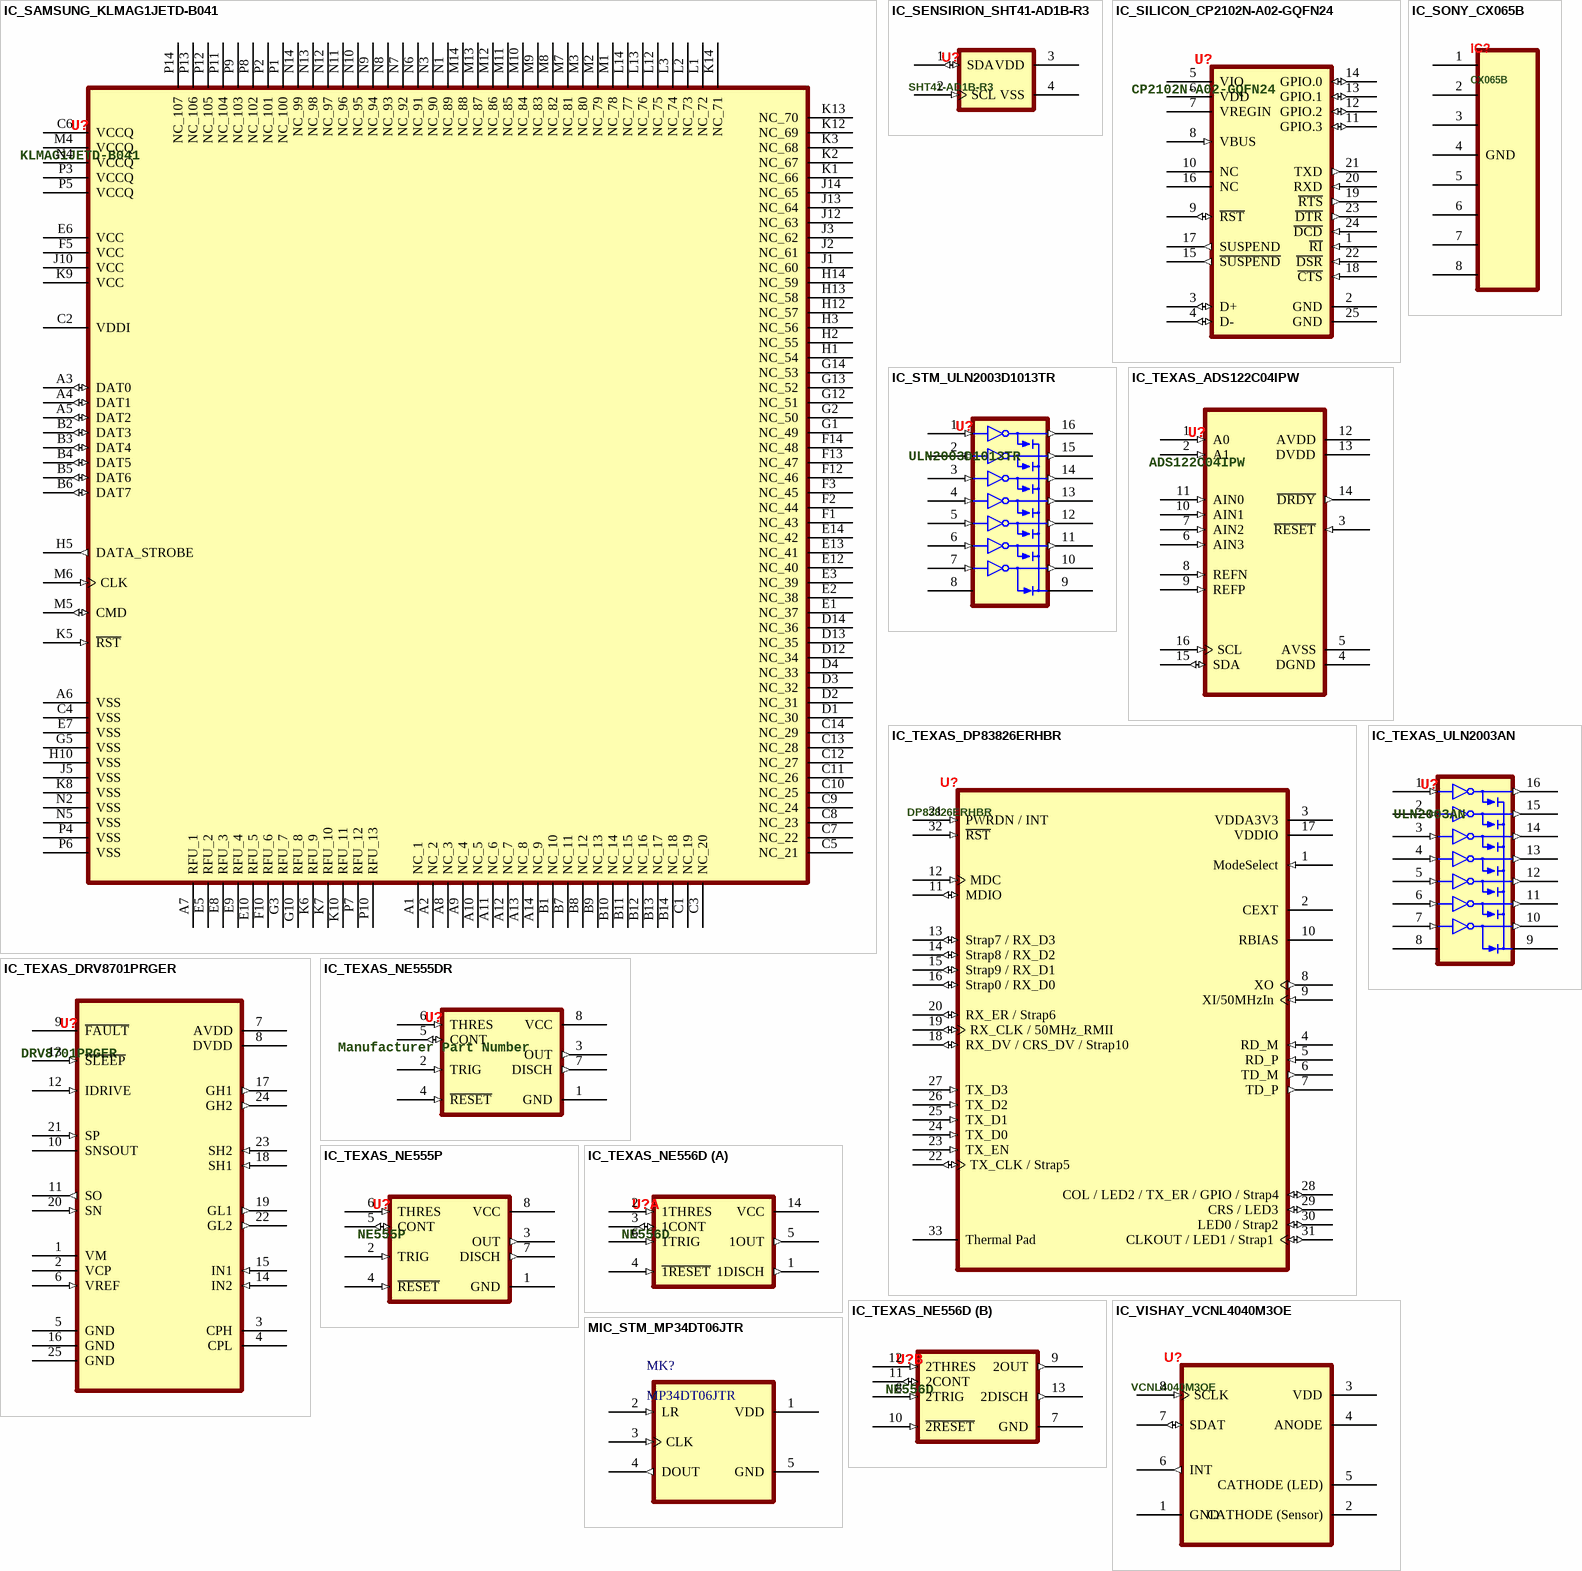
[diagram p2: symbols IC_SAMSUNG_KLMAG1JETD-B041 to MIC_STM_MP34DT06JTR]

## IC_SAMSUNG_KLMAG1JETD-B041
designator U?, comment KLMAG1JETD-B041
Flash Card 16G-bytes 1.8V/3.3V Embedded MMC 153-Pin FBGA; Manufacturer: Samsung; Address Bus Width: 1b; ComponentLinkDescription: Datasheet; Density: 128Gb; Max Supply Voltage: 3.8V; Memory Type: NAND; Min Supply Voltage: 1.7V; Operating Supply Voltage: 1.8V; Manufacturer Part Number: KLMAG1JETD-B041; Case/Package: 153-FBGA; Category: Memory; ComponentLinkURL: https://datasheet.lcsc.com/lcsc/2007011825_Samsung-KLMAG1JETD-B041_C499919.pdf; Interface: MMC; Max Operating Temperature: 85°C; Min Operating Temperature: -25°C; Supplier 1: LCSC; Supplier Part Number 1: C499919; ComponentLink1Description: Datasheet (Local); ComponentLink1URL: C:\Users\Public\Documents\Altium\Projects\My-PCB-Library\Datasheets\KLM8G1GETF-B041-Samsung.pdf
footprint BGA153C50P14X14_1150X1300X80 (BGA, 153-Leads, Body 11.50x13.00mmx0.80mm, Pitch 0.50mm)
pins: A1 NC_1, A2 NC_2, A3 DAT0 (io) "Data Channels", A4 DAT1 (io) "Data Channels", A5 DAT2 (io) "Data Channels", A6 VSS (power) "Ground", A7 RFU_1 "Reserved for Future Use", A8 NC_3, A9 NC_4, A10 NC_5, A11 NC_6, A12 NC_7, A13 NC_8, A14 NC_9, B1 NC_10, B2 DAT3 (io) "Data Channels", B3 DAT4 (io) "Data Channels", B4 DAT5 (io) "Data Channels", B5 DAT6 (io) "Data Channels", B6 DAT7 (io) "Data Channels", B7 NC_11, B8 NC_12, B9 NC_13, B10 NC_14, B11 NC_15, B12 NC_16, B13 NC_17, B14 NC_18, C1 NC_19, C2 VDDI (power) "Internal Power Node to Stabilize Regulator Output to Controller Core Logics", C3 NC_20, C4 VSS (power) "Ground", C5 NC_21, C6 VCCQ (power) "Supply Voltage for Memory Controller", C7 NC_22, C8 NC_23, C9 NC_24, C10 NC_25, C11 NC_26, C12 NC_27, C13 NC_28, C14 NC_29, D1 NC_30, D2 NC_31, D3 NC_32, D4 NC_33, D12 NC_34, D13 NC_35, D14 NC_36, E1 NC_37, E2 NC_38, E3 NC_39, E5 RFU_2 "Reserved for Future Use", E6 VCC (power) "Supply Voltage for Flash Memory", E7 VSS (power) "Ground", E8 RFU_3 "Reserved for Future Use", E9 RFU_4 "Reserved for Future Use", E10 RFU_5 "Reserved for Future Use", E12 NC_40, E13 NC_41, E14 NC_42, F1 NC_43, F2 NC_44, F3 NC_45, F5 VCC (power) "Supply Voltage for Flash Memory", F10 RFU_6 "Reserved for Future Use", F12 NC_46, F13 NC_47, F14 NC_48, G1 NC_49, G2 NC_50, G3 RFU_7 "Reserved for Future Use", G5 VSS (power) "Ground", G10 RFU_8 "Reserved for Future Use", G12 NC_51, G13 NC_52, G14 NC_53, H1 NC_54, H2 NC_55, H3 NC_56, H5 DATA_STROBE (out) "Data Strobe", H10 VSS (power) "Ground", H12 NC_57, H13 NC_58, H14 NC_59, J1 NC_60, J2 NC_61, J3 NC_62, J5 VSS (power) "Ground", J10 VCC (power) "Supply Voltage for Flash Memory", J12 NC_63, J13 NC_64, J14 NC_65, K1 NC_66, K2 NC_67, K3 NC_68, K5 ~{RST} (in) "Hardware Reset Signal", K6 RFU_9 "Reserved for Future Use", K7 RFU_10 "Reserved for Future Use", K8 VSS (power) "Ground", K9 VCC (power) "Supply Voltage for Flash Memory", K10 RFU_11 "Reserved for Future Use", K12 NC_69, K13 NC_70, K14 NC_71, L1 NC_72, L2 NC_73, L3 NC_74, L12 NC_75, L13 NC_76, L14 NC_77, M1 NC_78, M2 NC_79, M3 NC_80, M4 VCCQ (power) "Supply Voltage for Memory Controller", M5 CMD (io) "Device Initialization and Command Transfers", M6 CLK (in) "Clock Input", M7 NC_81, M8 NC_82, M9 NC_83, M10 NC_84, M11 NC_85, M12 NC_86, M13 NC_87, M14 NC_88, N1 NC_89, N2 VSS (power) "Ground", N3 NC_90, N4 VCCQ (power) "Supply Voltage for Memory Controller", N5 VSS (power) "Ground", N6 NC_91, N7 NC_92, N8 NC_93, N9 NC_94, N10 NC_95, N11 NC_96, N12 NC_97, N13 NC_98, N14 NC_99, P1 NC_100, P2 NC_101, P3 VCCQ (power) "Supply Voltage for Memory Controller", P4 VSS (power) "Ground", P5 VCCQ (power) "Supply Voltage for Memory Controller", P6 VSS (power) "Ground", P7 RFU_12 "Reserved for Future Use", P8 NC_102, P9 NC_103, P10 RFU_13 "Reserved for Future Use", P11 NC_104, P12 NC_105, P13 NC_106, P14 NC_107

## IC_SENSIRION_SHT41-AD1B-R3
designator U?, comment SHT41-AD1B-R3
Sensor Humidity, Temperature 0 ~ 100% RH I²C ±1.8% RH 4 s Surface Mount; Manufacturer: Sensirion; Accuracy: ±1.8% RH; Response Time: 4 s; Min Supply Voltage: 1.08V; Max Supply Voltage: 3.6V; ComponentLinkDescription: Datasheet; Manufacturer Part Number: SHT41-AD1B-R3; Category: Humidity, Moisture Sensors; Case/Package: 4-DFN (1.5x1.5); Sensor Type: Humidity, Temperature; Humidity Range: 0 ~ 100% RH; Output Type: I²C; Min Operating Temperature: -40°C; Max Operating Temperature: 125°C; RoHS Compliant: Yes; Supplier 1: Digi-Key; Supplier Part Number 1: 1649-SHT41-AD1B-R3CT-ND; ComponentLinkURL: https://sensirion.com/media/documents/33FD6951/63E1087C/Datasheet_SHT4x_1.pdf; Supplier 2: Mouser; Supplier Part Number 2: 403-SHT41-AD1B-R3
footprint DFN80P150X150X79-4N (DFN, 4-Leads, Body 1.50x1.50mm, Pitch 0.80mm, IPC Medium Density)
footprint DFN80P150X150X79-4M (DFN, 4-Leads, Body 1.50x1.50mm, Pitch 0.80mm, IPC Low Density)
footprint DFN80P150X150X79-4L (DFN, 4-Leads, Body 1.50x1.50mm, Pitch 0.80mm, IPC High Density)
pins: 1 SDA (io) "I2C Serial Data", 2 SCL (in) "I2C Serial Clock", 3 VDD (power) "Supply Voltage", 4 VSS (power) "Ground"

## IC_SILICON_CP2102N-A02-GQFN24
designator U?, comment CP2102N-A02-GQFN24
USB Bridge, USB to UART USB 2.0 UART Interface 24-QFN (4x4); Manufacturer: Silicon Labs; ComponentLinkDescription: Datasheet; Max Supply Voltage: 3.6V; Min Supply Voltage: 3V; Operating Supply Current: 9.5mA; Manufacturer Part Number: CP2102N-A02-GQFN24; Category: Interface Controllers; Case/Package: 24-QFN (4x4); ComponentLinkURL: https://www.silabs.com/documents/public/data-sheets/cp2102n-datasheet.pdf; Max Operating Temperature: 85°C; Min Operating Temperature: -40°C; RoHS Compliant: Yes; Supplier 1: Digi-Key; Supplier Part Number 1: 336-5887-ND; Supplier 2: Mouser; Supplier Part Number 2: 634-CP2102NA02GQFN24
footprint QFN50P400X400X80_HS-25N (QFN, 24-Leads, Body 4.00x4.00mm, Pitch 0.50mm, Thermal Pad 2.45x2.45mm, IPC Medium Density)
footprint QFN50P400X400X80_HS-25L (QFN, 24-Leads, Body 4.00x4.00mm, Pitch 0.50mm, Thermal Pad 2.45x2.45mm, IPC High Density)
footprint QFN50P400X400X80_HS-25M (QFN, 24-Leads, Body 4.00x4.00mm, Pitch 0.50mm, Thermal Pad 2.45x2.45mm, IPC Low Density)
pins: 1 ~{RI} (in) "Ring Indicator control input", 2 GND (power) "Ground", 3 D+ (io) "USB Data Positive", 4 D- (io) "USB Data Negative", 5 VIO (power) "I/O Supply Power Input", 6 VDD (power) "Supply Power Input", 7 VREGIN (power) "5V Regulator Input", 8 VBUS (in) "VBUS Sense Input", 9 ~{RST} (io) "Active-low Reset", 10 NC "No Connect", 11 GPIO.3 (io) "General Purpose I/O", 12 GPIO.2 (io) "General Purpose I/O", 13 GPIO.1 (io) "General Purpose I/O", 14 GPIO.0 (io) "General Purpose I/O", 15 ~{SUSPEND} (out) "Driven low when device enters USB suspend", 16 NC "No Connect", 17 SUSPEND (out) "Driven high when device enters USB suspend", 18 ~{CTS} (in) "Clear To Send control input", 19 ~{RTS} (out) "Ready to To Send control output", 20 RXD (in) "Asynchronous data input (UART Receive)", 21 TXD (out) "Asynchronous data output (UART Transmit)", 22 ~{DSR} (in) "Data Set Ready control input", 23 ~{DTR} (out) "Data Terminal Ready control input", 24 ~{DCD} (in) "Data Carrier Detect control input", 25 GND (power) "Ground"

## IC_SONY_CX065B
designator IC?, comment CX065B  (no BOM)
Motor Speed Controller for Floppy Disk Drives; Manufacturer Part Number: CX065B; Case/Package: 8-SIP; Category: Motor Drivers, Controllers
footprint SIP250W52P254L190H60-Q8B (SIP, 8-Leads, Body 19mmx2.5mm, Pitch 0.254mm, IPC Medium Density)
pins: 1, 2, 3, 4 GND, 5, 6, 7, 8

## IC_STM_ULN2003D1013TR
designator U?, comment ULN2003D1013TR
Power Switch/Driver 1:1 7-NPN 500mA 16-SO; Manufacturer: STMicroelectronics; Polarity: NPN; Output Voltage: 50V; ComponentLinkDescription: Datasheet; Manufacturer Part Number: ULN2003D1013TR; Category: Power Distribution Switches, Load Drivers; Case/Package: 16-SOIC; Min Operating Temperature: -40°C; Max Operating Temperature: 85°C; Output Current: 500mA; RoHS Compliant: Yes; ComponentLinkURL: https://www.st.com/content/ccc/resource/technical/document/datasheet/f3/6e/c8/64/4d/b3/4e/38/CD00001244.pdf/files/CD00001244.pdf/jcr:content/translations/en.CD00001244.pdf; Supplier 1: Digi-Key; Supplier 2: Mouser; Supplier Part Number 1: 497-2345-1-ND; Supplier Part Number 2: 511-ULN2003D1013TR
footprint SOIC127P600X175-16N (SOIC, 16-Leads, Body 9.90x3.90mm, Pitch 1.27mm, IPC Medium Density)
footprint SOIC127P600X175-16L (SOIC, 16-Leads, Body 9.90x3.90mm, Pitch 1.27mm, IPC High Density)
footprint SOIC127P600X175-16M (SOIC, 16-Leads, Body 9.90x3.90mm, Pitch 1.27mm, IPC Low Density)
pins: 1 IN 1 (in), 2 IN 2 (in), 3 IN 3 (in), 4 IN 4 (in), 5 IN 5 (in), 6 IN 6 (in), 7 IN 7 (in), 8 GND (power), 9 COM (power) "Common Free Wheeling Diodes", 10 OUT 7 (out), 11 OUT 6 (out), 12 OUT 5 (out), 13 OUT 4 (out), 14 OUT 3 (out), 15 OUT 2 (out), 16 OUT 1 (out)

## IC_TEXAS_ADS122C04IPW
designator U?, comment ADS122C04IPW
24 Bit Analog to Digital Converter 4 Input 1 Sigma-Delta 16-TSSOP; Manufacturer: Texas Instruments; ComponentLinkDescription: Datasheet; Interface: I2C; Number of Bits: 24; Sampling Rate: 2k; Number of Inputs: 4; Input Type: Differential, Single Ended; Configuration: MUX-PGA-ADC; Ratio - S/H-ADC: 0:1; Number of A/D Converters: 1; Min Supply Voltage: 2.3V; Max Supply Voltage: 5.5V; ComponentLinkURL: https://www.ti.com/general/docs/suppproductinfo.tsp?distId=10&gotoUrl=https%3A%2F%2Fwww.ti.com%2Flit%2Fgpn%2Fads122c04; Manufacturer Part Number: ADS122C04IPW; Category: Analog to Digital Converters (ADC); Architecture: Sigma-Delta; Min Operating Temperature: -40°C; Max Operating Temperature: 125°C; Case/Package: 16-TSSOP; RoHS Compliant: Yes; Supplier 1: Digi-Key; Supplier 2: Mouser; Supplier Part Number 1: 296-49069-ND; Supplier Part Number 2: 595-ADS122C04IPW
footprint TSOP65P640X120-16N (TSOP, 16-Leads, Body 5.00x4.45mm, Pitch 0.65mm, IPC Medium Density)
footprint TSOP65P640X120-16L (TSOP, 16-Leads, Body 5.00x4.45mm, Pitch 0.65mm, IPC High Density)
footprint TSOP65P640X120-16M (TSOP, 16-Leads, Body 5.00x4.45mm, Pitch 0.65mm, IPC Low Density)
pins: 1 A0 (in) "I²C slave address select pin 0", 2 A1 (in) "I²C slave address select pin 1", 3 ~{RESET} (in) "Reset, active low", 4 DGND (power) "Digital ground", 5 AVSS (power) "Negative analog power supply", 6 AIN3 (in) "Analog input", 7 AIN2 (in) "Analog input", 8 REFN (in) "Negative reference input", 9 REFP (in) "Positive reference input", 10 AIN1 (in) "Analog input", 11 AIN0 (in) "Analog input", 12 AVDD (power) "Positive analog power supply", 13 DVDD (power) "Positive digital power supply", 14 ~{DRDY} (out) "Data ready, active low", 15 SDA (io) "Serial data input and output", 16 SCL (in) "Serial clock input"

## IC_TEXAS_DP83826ERHBR
designator U?, comment DP83826ERHBR
Ethernet Controller 10/100 Base-T/TX PHY MII, RMII Interface 32-VQFN (5x5); Manufacturer: Texas Instruments; ComponentLinkDescription: Datasheet; Max Supply Voltage: 3.6V; Min Supply Voltage: 1.62V; Manufacturer Part Number: DP83826ERHBR; Category: Interface Controllers; ComponentLink1Description: Design Layout; ComponentLink1URL: https://www.ti.com/lit/an/snla387/snla387.pdf; Case/Package: 32-VQFN (5x5); ComponentLinkURL: https://www.ti.com/lit/ds/symlink/dp83826e.pdf; Supplier 1: Digi-Key; Supplier Part Number 1: 296-DP83826ERHBRCT-ND; Supplier 2: Mouser; Supplier Part Number 2: 595-DP83826ERHBR; Max Operating Temperature: 105°C; Min Operating Temperature: -40°C; RoHS Compliant: Yes
ibis DP83826 (Texas Instruments Ethernet PHY DP83826)
footprint QFN50P500X500X100_HS-33N (QFN, 32-Leads, Body 5.00x5.00mm, Pitch 0.50mm, Thermal Pad 2.10x2.10mm, IPC Medium Density)
footprint QFN50P500X500X100_HS-33M (QFN, 32-Leads, Body 5.00x5.00mm, Pitch 0.50mm, Thermal Pad 2.10x2.10mm, IPC Low Density)
footprint QFN50P500X500X100_HS-33L (QFN, 32-Leads, Body 5.00x5.00mm, Pitch 0.50mm, Thermal Pad 2.10x2.10mm, IPC High Density)
pins: 1 ModeSelect (in) "Selects operating mode: BASIC or ENHANCED mode", 2 CEXT "External Capacitor", 3 VDDA3V3 (power) "Input analog supply: 3V3", 4 RD_M (in) "Differential receive input", 5 RD_P (in) "Differential receive input", 6 TD_M (out) "Differential transmit output", 7 TD_P (out) "Differential transmit output", 8 XO (out) "Crystal output", 9 XI/50MHzIn (in) "Crystal or oscillator input clock", 10 RBIAS "Bias Resistor", 11 MDIO (io) "Management Data I/O", 12 MDC (in) "Management Data Clock", 13 Strap7 / RX_D3 (io) "Receive Data", 14 Strap8 / RX_D2 (io) "Receive Data", 15 Strap9 / RX_D1 (io) "Receive Data", 16 Strap0 / RX_D0 (io) "Receive Data", 17 VDDIO (power) "I/O Supply voltage: 3.3V / 1.8V", 18 RX_DV / CRS_DV / Strap10 (io) "Receive Data Valid", 19 RX_CLK / 50MHz_RMII (io) "MII Receive Clock / RMII 50MHz Reference Clock", 20 RX_ER / Strap6 (io) "Receive Error", 21 PWRDN / INT (in) "Power down (default), interrupt", 22 TX_CLK / Strap5 (io) "MII transmit clock. Unused in RMII mode", 23 TX_EN (in) "Transmit enable", 24 TX_D0 (in) "Transmit data", 25 TX_D1 (in) "Transmit data", 26 TX_D2 (in) "Transmit data", 27 TX_D3 (in) "Transmit data", 28 COL / LED2 / TX_ER / GPIO / Strap4 (io) "Collision detect (default) / LED2 (in RMII)", 29 CRS / LED3 (io) "Carrier Sense (default) / LED3 (in RMII)", 30 LED0 / Strap2 (io) "LED transmit / receive, link status", 31 CLKOUT / LED1 / Strap1 (io) "25MHz Ref clock from XI as default to clock / LED1", 32 ~{RST} (in) "Reset low", 33 Thermal Pad (power)

## IC_TEXAS_DRV8701PRGER
designator U?, comment DRV8701PRGER
Motor Driver Power MOSFET PWM 24-VQFN (4x4); Manufacturer: Texas Instruments; Motor Type - AC, DC: Brushed DC; Function: Controller - Current Management; Output Configuration: Pre-Driver - Half Bridge (2); Min Supply Voltage: 0; Max Supply Voltage: 5.75V; Min Load Voltage: 5.9V; Max Load Voltage: 45V; ComponentLinkDescription: Datasheet; Manufacturer Part Number: DRV8701PRGER; Interface: PWM; Technology: Power MOSFET; Category: Motor Drivers, Controllers; Min Operating Temperature: -40°C; Max Operating Temperature: 125°C; Case/Package: 24-VQFN (4x4); RoHS Compliant: Yes; ComponentLinkURL: https://www.ti.com/general/docs/suppproductinfo.tsp?distId=10&gotoUrl=https%3A%2F%2Fwww.ti.com%2Flit%2Fgpn%2Fdrv8701; Supplier 1: Digi-Key; Supplier 2: Mouser; Supplier Part Number 1: 296-46293-1-ND; Supplier Part Number 2: 595-DRV8701PRGER
footprint QFN50P400X400X100_HS-25M (QFN, 24-Leads, Body 4.00x4.00mm, Pitch 0.50mm, Thermal Pad 2.80x2.80mm, IPC Low Density)
footprint QFN50P400X400X100_HS-25L (QFN, 24-Leads, Body 4.00x4.00mm, Pitch 0.50mm, Thermal Pad 2.80x2.80mm, IPC High Density)
footprint QFN50P400X400X100_HS-25N (QFN, 24-Leads, Body 4.00x4.00mm, Pitch 0.50mm, Thermal Pad 2.80x2.80mm, IPC Medium Density)
pins: 1 VM (power) "Power supply", 2 VCP (power) "Charge pump output", 3 CPH (power) "Charge pump switching nodes", 4 CPL (power) "Charge pump switching nodes", 5 GND (power) "Device ground", 6 VREF (in) "Analog reference input", 7 AVDD (power) "Analog regulator", 8 DVDD (power) "Logic regulator", 9 ~{FAULT} (oc) "Fault indication pin", 10 SNSOUT (oc) "Sense comparator output", 11 SO (out) "Shunt amplifier output", 12 IDRIVE (in) "Gate drive current setting pin", 13 ~{SLEEP} (in) "Device sleep mode", 14 IN2 (in) "Bridge PWM input", 15 IN1 (in) "Bridge PWM input", 16 GND (power) "Device ground", 17 GH1 (out) "High-side gate", 18 SH1 (in) "Phase node", 19 GL1 (out) "Low-side gate", 20 SN (in) "Shunt amplifier negative input", 21 SP (in) "Shunt amplifier positive input", 22 GL2 (out) "Low-side gate", 23 SH2 (in) "Phase node", 24 GH2 (out) "High-side gate", 25 GND (power) "Device ground"

## IC_TEXAS_NE555DR
designator U?, comment Manufacturer Part Number
Timer/Oscillator (Single), 555 Type IC 100kHz 8-SOIC; Manufacturer: Texas Instruments; Manufacturer Part Number: NE555DR; Max Supply Voltage: 16V; Min Supply Voltage: 4.5V; Operating Supply Current: 10mA; ComponentLinkDescription: Datasheet; Operating Supply Voltage: 5V; Category: Timers and Oscillators; Case/Package: 8-SOIC; Min Operating Temperature: 0°C; Max Operating Temperature: 70°C; RoHS Compliant: Yes; ComponentLinkURL: https://www.ti.com/lit/ds/symlink/se555.pdf; Supplier 1: Digi-Key; Supplier 2: Mouser; Supplier Part Number 1: 296-6501-1-ND; Supplier Part Number 2: 595-NE555DR
footprint SOIC127P600X175-8N (SOIC, 8-Leads, Body 4.91x3.90mm, Pitch 1.27mm, IPC Medium Density)
footprint SOIC127P600X175-8L (SOIC, 8-Leads, Body 4.91x3.90mm, Pitch 1.27mm, IPC High Density)
footprint SOIC127P600X175-8M (SOIC, 8-Leads, Body 4.91x3.90mm, Pitch 1.27mm, IPC Low Density)
simulation model 555 (Model Description)
pins: 1 GND (power) "Ground", 2 TRIG (in) "Start of timing input. TRIG < 1/2 CONT sets output high and discharge open", 3 OUT (out) "High current timer output signal", 4 ~{RESET} (in) "Active low reset input forces output and discharge low", 5 CONT (io) "Controls comparator thresholds. Outputs 2/3 VCC, allows bypass capacitor connection", 6 THRES (in) "End of timing input. THRESH > CONT sets output low and discharge low", 7 DISCH (out) "Open collector output to discharge timing capacitor", 8 VCC (power) "Input supply voltage"